# EAGLE library part IS31AP4991-? (library kiks-ic)
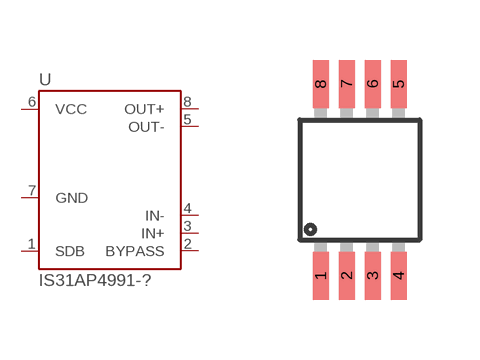
[diagram p18: symbol with the pads of MSOP8; footprint MSOP8]

Designator prefix U

## IS31AP4991-SLS  [MSOP8]
1  SDB  in
2  BYPASS
3  IN+  in
4  IN-  in
5  OUT-  out
6  VCC
7  GND
8  OUT+  out

## Footprint MSOP8 (pad centres in mm)
smd 0.4 x 1.2: 1 -0.975,-2.4; 2 -0.325,-2.4; 3 0.325,-2.4; 4 0.975,-2.4; 5 0.975,2.4; 6 0.325,2.4; 7 -0.325,2.4; 8 -0.975,2.4